# Altium footprint library EEEK101.PcbLib: 1 footprints
Each footprint in its own frame and in the unit in brackets; x right, y up, seen from the top. Pads: shape width x height; smd on the part's side, far side on the other; paste and mask are expansions set on the pad; w line width, h text height; cw(c..) or ccw(c..) is an arc to the next point about the centre after c.
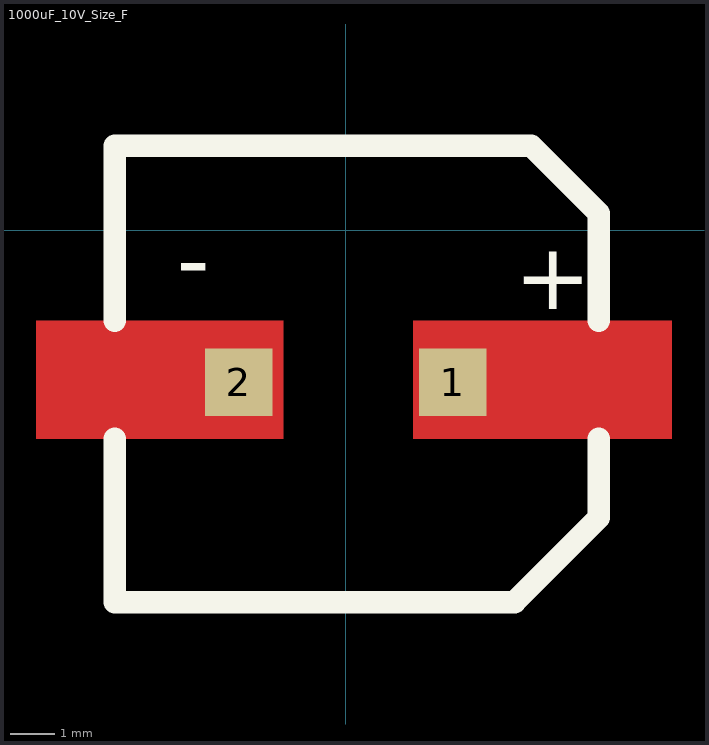
[diagram p0: the footprint, top view; thin cyan lines are the x and y axes]

## 1000uF_10V_Size_F [mil]
pads (2):
  rect 60x60 smd: 1(95,-135) 2(-95,-135)
Top Layer:
  rectangle: -275,-185 -55,-80
  rectangle: 60,-185 290,-80
Top Overlay:
  lines w20: -205,-185 -205,-330 150,-330 225,-255 225,-185 ; -205,-80 -205,75 165,75 225,15 225,-80
  text "-" at -150,-54.99 h60
  text "+" at 150,-70 h60
3D body "EEE1HA101AP.stp": height 406.18, standoff 4.57, extent -220,-330 240.63,75.51